# Altium schematic symbol library SN74141.SchLib: 1 symbol
Pins are listed as number, name and electrical type; pins without a type are passive.

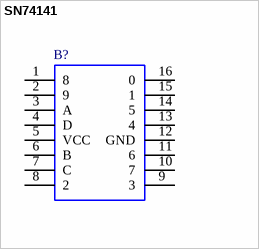
[diagram p0: symbol SN74141]

## SN74141
designator B?
Nixie driver; Manufacturer_Name: Texas Instruments; Geometry.Height: 5.08mm; Manufacturer_Part_Number: SN74141; Mouser Part Number: *; Mouser Price/Stock: *; Arrow Part Number: *; Arrow Price/Stock: *; Mouser Testing Part Number: *; Mouser Testing Price/Stock: *; Datasheet Link: http://pdf1.alldatasheet.com/datasheet-pdf/view/115763/TI/SN74141.html
footprint DIP787W53P279L2176H508Q16N
pins: 1 8, 2 9, 3 A, 4 D, 5 VCC (power), 6 B, 7 C, 8 2, 9 3, 10 7, 11 6, 12 GND, 13 4, 14 5, 15 1, 16 0